# Altium schematic symbol library DIODE.SchLib: 1 symbol
Pins are listed as number, name and electrical type; pins without a type are passive.

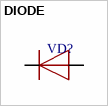
[diagram p0: symbol DIODE]

## DIODE
designator VD?
footprint DO-214AA
footprint DO-41
footprint DO-35
footprint DO-214AC, SMA
footprint SOD128
footprint DO-214AB
footprint SOD-80
footprint SOD-123
footprint DIODE_R6
footprint DO-201
footprint DO-017AA
footprint DO-221AC, SMA
footprint DO-214BA
pins: 1 C, 2 A